# Altium footprint library RESC1632X65N.PcbLib: 1 footprints
Each footprint in its own frame and in the unit in brackets; x right, y up, seen from the top. Pads: shape width x height; smd on the part's side, far side on the other; paste and mask are expansions set on the pad; w line width, h text height; cw(c..) or ccw(c..) is an arc to the next point about the centre after c.
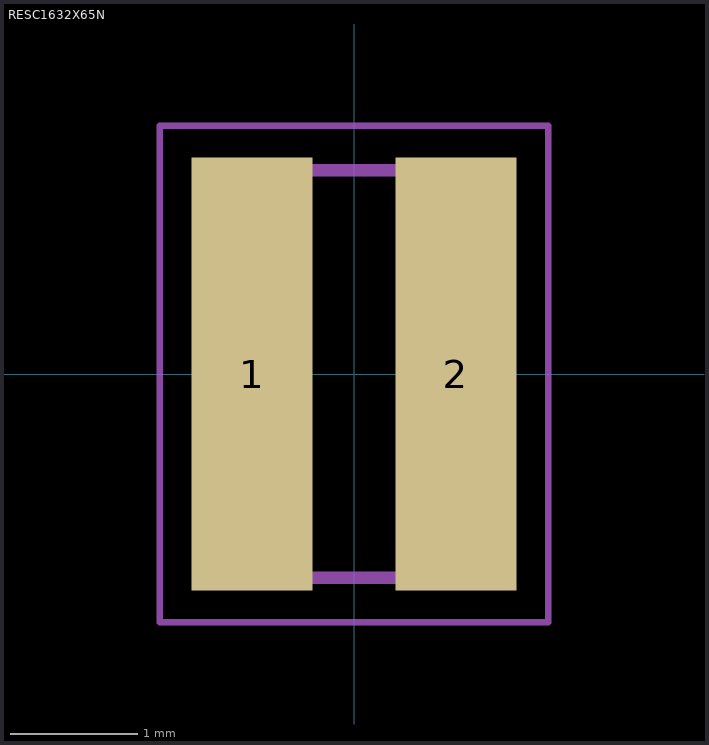
[diagram p0: the footprint, top view; thin cyan lines are the x and y axes]

## RESC1632X65N [mm]
pads (2):
  rect 0.95x3.4 smd: 1(-0.8,0) 2(0.8,0)
Mechanical 15:
  lines w0.1: -0.8,-1.6 0.8,-1.6 0.8,1.6 -0.8,1.6 -0.8,-1.6
Mechanical 20:
  lines w0.05: -1.525,-1.95 1.525,-1.95 1.525,1.95 -1.525,1.95 -1.525,-1.95